# Altium footprint library NB3V8312CMNG.PcbLib: 1 footprints
Each footprint in its own frame and in the unit in brackets; x right, y up, seen from the top. Pads: shape width x height; smd on the part's side, far side on the other; paste and mask are expansions set on the pad; w line width, h text height; cw(c..) or ccw(c..) is an arc to the next point about the centre after c.
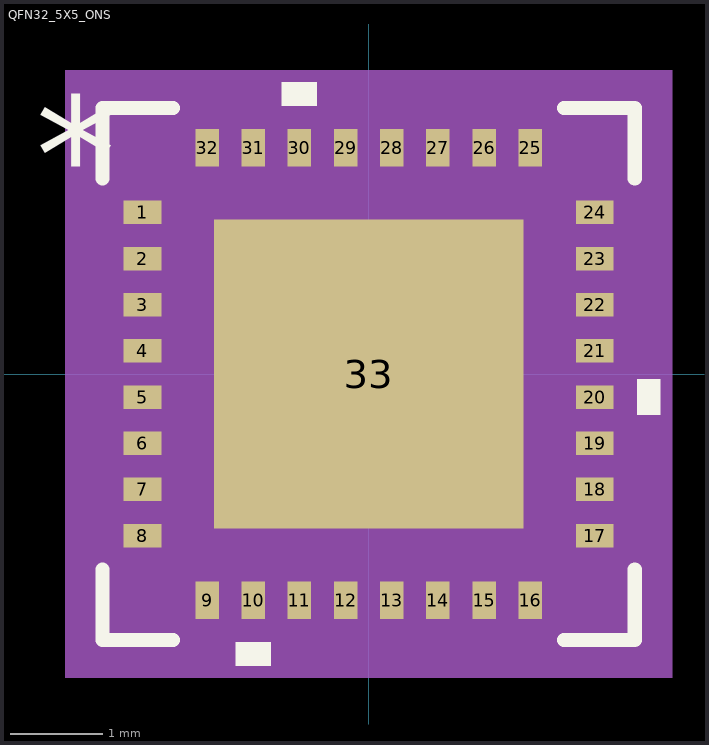
[diagram p0: the footprint, top view; thin cyan lines are the x and y axes]

## QFN32_5X5_ONS [mil]
pads (33):
  rect 16x10 smd paste-5 mask+0: 1(-96.46,68.92) 2(-96.46,49.23) 3(-96.46,29.54) 4(-96.46,9.85) 5(-96.46,-9.85) 6(-96.46,-29.54) 7(-96.46,-49.23) 8(-96.46,-68.92) 17(96.46,-68.92) 18(96.46,-49.23) 19(96.46,-29.54) 20(96.46,-9.85) 21(96.46,9.85) 22(96.46,29.54) 23(96.46,49.23) 24(96.46,68.92)
  rect 10x16 smd paste-5 mask+0: 9(-68.92,-96.46) 10(-49.23,-96.46) 11(-29.54,-96.46) 12(-9.85,-96.46) 13(9.85,-96.46) 14(29.54,-96.46) 15(49.23,-96.46) 16(68.92,-96.46) 25(68.92,96.46) 26(49.23,96.46) 27(29.54,96.46) 28(9.85,96.46) 29(-9.85,96.46) 30(-29.54,96.46) 31(-49.23,96.46) 32(-68.92,96.46)
  rect 132x132 smd paste-66 mask+0: 33(0,0)
Top Overlay:
  region: -22.04,114.46 -37.03,114.46 -37.03,124.46 -22.04,124.46
  region: 114.46,-2.35 124.46,-2.35 124.46,-17.34 114.46,-17.34
  region: -41.73,-114.46 -56.73,-114.46 -56.73,-124.46 -41.73,-124.46
  lines w6: -113.5,-83.39 -113.5,-113.5 -83.39,-113.5 ; -113.5,83.39 -113.5,113.5 -83.39,113.5 ; 83.39,-113.5 113.5,-113.5 113.5,-83.39 ; 83.39,113.5 113.5,113.5 113.5,83.39
  text "*" at -141.96,68.76 h50
Top Paste:
  region: 62.06,-3.94 3.94,-3.94 3.94,-62.06 62.06,-62.06
  region: 62.06,62.06 3.94,62.06 3.94,3.94 62.06,3.94
  region: -3.94,-3.94 -62.06,-3.94 -62.06,-62.06 -3.94,-62.06
  region: -3.94,62.06 -62.06,62.06 -62.06,3.94 -3.94,3.94
Mechanical 5:
  region: 129.46,-129.46 -129.46,-129.46 -129.46,129.46 129.46,129.46
Mechanical 13:
  lines w1: -98.5,48.5 -48.5,98.5 ; -98.5,-98.5 -98.5,98.5 98.5,98.5 98.5,-98.5 -98.5,-98.5
  text "*" at -90.96,53.76 h50
Mechanical 15:
  region: -83.92,-108.5 -108.5,-108.5 -108.5,-83.92 -114.46,-83.92 -114.46,83.92 -108.5,83.92 -108.5,108.5 -83.92,108.5 -83.92,114.46 83.92,114.46 83.92,108.5 108.5,108.5 108.5,83.92 114.46,83.92 114.46,-83.92 108.5,-83.92 108.5,-108.5 83.92,-108.5 83.92,-114.46 -83.92,-114.46
  lines w6: -114.46,-83.92 -114.46,83.92 -108.5,83.92 -108.5,108.5 -83.92,108.5 -83.92,114.46 83.92,114.46 83.92,108.5 108.5,108.5 108.5,83.92 114.46,83.92 114.46,-83.92 108.5,-83.92 108.5,-108.5 83.92,-108.5 83.92,-114.46 -83.92,-114.46 -83.92,-108.5 -108.5,-108.5 -108.5,-83.92 -114.46,-83.92
3D body "QFN32_5X5_ONS.step": height 37.09, standoff 0, extent -100.51,-100.51 100.51,100.51